# EAGLE library part DIP_SWITCH_X4 (library custom_parts)
4 position dip switch from http://www.mouser.com/ProductDetail/CTS-Electronic-Components/219-4LPST/?qs=sGAEpiMZZMv%2f%252b2JhlA6ysGbG22VYatTYq6uUsyqguGg%3d
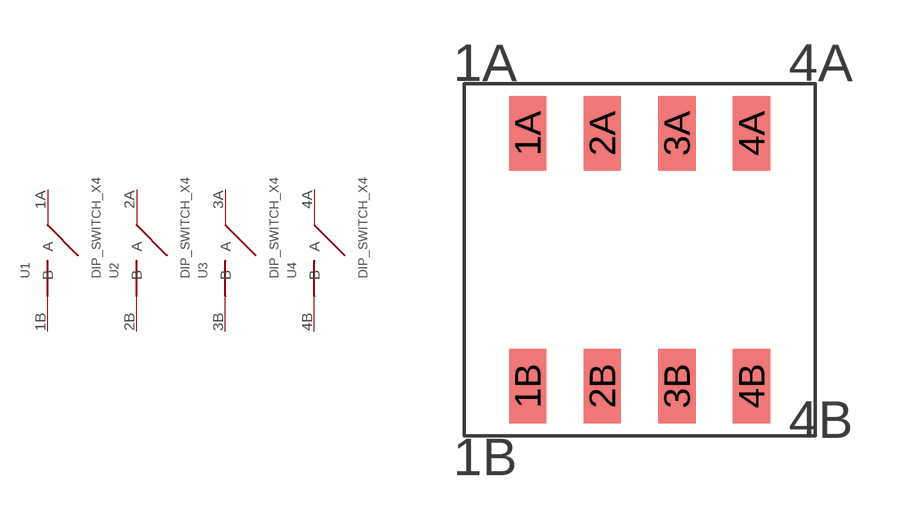
[diagram p0: symbol with the pads of 219-4LPST; footprint 219-4LPST]

Designator prefix -; gates 1=SWITCH 2=SWITCH 3=SWITCH 4=SWITCH

## DIP_SWITCH_X4  [219-4LPST]
1A  1:A  pas
1B  1:B  pas
2A  2:A  pas
2B  2:B  pas
3A  3:A  pas
3B  3:B  pas
4A  4:A  pas
4B  4:B  pas

## Footprint 219-4LPST (pad centres in mm)
4 position dip switch from http://www.mouser.com/ProductDetail/CTS-Electronic-Components/219-4LPST/?qs=sGAEpiMZZMv%2f%252b2JhlA6ysGbG22VYatTYq6uUsyqguGg%3d
smd 1.27 x 2.54: 1A -3.81,4.3; 1B -3.81,-4.3; 2A -1.27,4.3; 2B -1.27,-4.3; 3A 1.27,4.3; 3B 1.27,-4.3; 4A 3.81,4.3; 4B 3.81,-4.3